# Altium footprint library medtronic_spinal_electrode_8pin.PcbLib: 1 footprints
Each footprint in its own frame and in the unit in brackets; x right, y up, seen from the top. Pads: shape width x height; smd on the part's side, far side on the other; paste and mask are expansions set on the pad; w line width, h text height; cw(c..) or ccw(c..) is an arc to the next point about the centre after c.
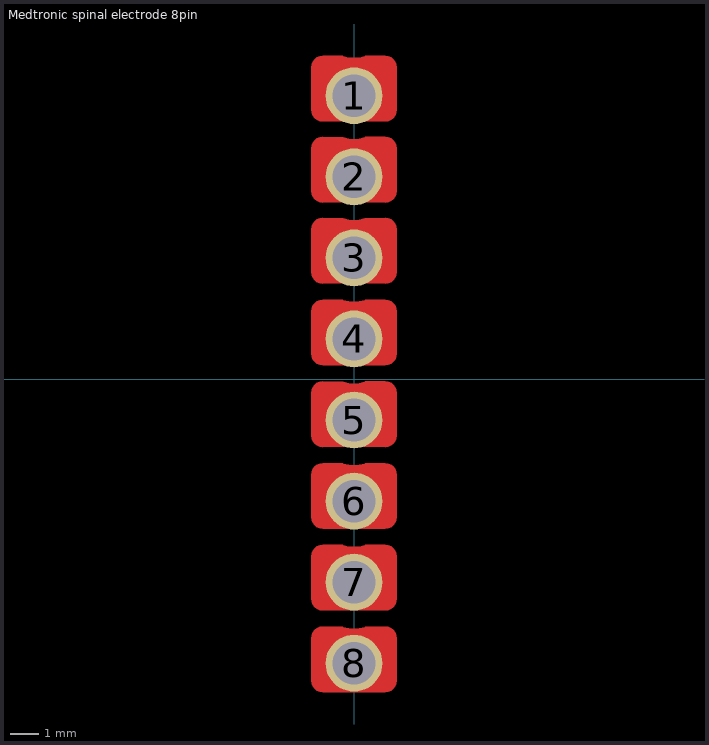
[diagram p0: the footprint, top view; thin cyan lines are the x and y axes]

## Medtronic spinal electrode 8pin [mm]
pads (8):
  round 2 / inner round 2.5 / far side round 2.55 hole 1.5: 1(0,9.975) 2(0,7.125) 3(0,4.275) 4(0,1.425) 5(0,-1.425) 6(0,-4.275) 7(0,-7.125) 8(0,-9.975)
Top Layer:
  region: -1.1,-8.12 -1.204,-8.106 -1.302,-8.066 -1.385,-8.002 -1.449,-7.918 -1.49,-7.821 -1.503,-7.717 -1.5,-7.717 -1.503,-6.217 -1.49,-6.112 -1.449,-6.015 -1.385,-5.931 -1.302,-5.867 -1.204,-5.827 -1.1,-5.813 -1.1,-5.817 -0.402,-5.818 -0.372,-5.83 -0.188,-5.874 0,-5.889 0.188,-5.874 0.372,-5.83 0.4,-5.819 0.4,-5.817 1.1,-5.813 1.204,-5.827 1.302,-5.867 1.385,-5.931 1.449,-6.015 1.49,-6.112 1.503,-6.217 1.5,-6.217 1.503,-7.717 1.49,-7.821 1.449,-7.918 1.385,-8.002 1.302,-8.066 1.204,-8.106 1.1,-8.12 1.1,-8.117 -1.1,-8.117
  region: -1.1,0.499 -1.204,0.513 -1.302,0.553 -1.385,0.617 -1.449,0.701 -1.49,0.798 -1.503,0.903 -1.5,0.903 -1.503,2.403 -1.49,2.507 -1.449,2.604 -1.385,2.688 -1.302,2.752 -1.204,2.792 -1.1,2.806 -1.1,2.803 -0.402,2.802 -0.372,2.789 -0.188,2.745 0,2.73 0.188,2.745 0.372,2.789 0.4,2.801 0.4,2.803 1.1,2.806 1.204,2.792 1.302,2.752 1.385,2.688 1.449,2.604 1.49,2.507 1.503,2.403 1.5,2.403 1.503,0.903 1.49,0.798 1.449,0.701 1.385,0.617 1.302,0.553 1.204,0.513 1.1,0.499 1.1,0.503 -1.1,0.503
  region: -1.1,6.222 -1.204,6.235 -1.302,6.276 -1.385,6.34 -1.449,6.423 -1.49,6.521 -1.503,6.625 -1.5,6.625 -1.503,8.125 -1.49,8.229 -1.449,8.327 -1.385,8.41 -1.302,8.474 -1.204,8.515 -1.1,8.528 -1.1,8.525 -0.402,8.524 -0.372,8.512 -0.188,8.468 0,8.453 0.188,8.468 0.372,8.512 0.4,8.523 0.4,8.525 1.1,8.528 1.204,8.515 1.302,8.474 1.385,8.41 1.449,8.327 1.49,8.229 1.503,8.125 1.5,8.125 1.503,6.625 1.49,6.521 1.449,6.423 1.385,6.34 1.302,6.276 1.204,6.235 1.1,6.222 1.1,6.225 -1.1,6.225
  region: -1.1,9.072 -1.204,9.085 -1.302,9.126 -1.385,9.19 -1.449,9.273 -1.49,9.371 -1.503,9.475 -1.5,9.475 -1.503,10.975 -1.49,11.079 -1.449,11.177 -1.385,11.26 -1.302,11.324 -1.204,11.365 -1.1,11.378 -1.1,11.375 -0.402,11.374 -0.372,11.362 -0.188,11.318 0,11.303 0.188,11.318 0.372,11.362 0.4,11.373 0.4,11.375 1.1,11.378 1.204,11.365 1.302,11.324 1.385,11.26 1.449,11.177 1.49,11.079 1.503,10.975 1.5,10.975 1.503,9.475 1.49,9.371 1.449,9.273 1.385,9.19 1.302,9.126 1.204,9.085 1.1,9.072 1.1,9.075 -1.1,9.075
  region: -1.1,3.372 -1.204,3.385 -1.302,3.426 -1.385,3.49 -1.449,3.573 -1.49,3.671 -1.503,3.775 -1.5,3.775 -1.503,5.275 -1.49,5.379 -1.449,5.477 -1.385,5.56 -1.302,5.624 -1.204,5.665 -1.1,5.678 -1.1,5.675 -0.402,5.674 -0.372,5.662 -0.188,5.618 0,5.603 0.188,5.618 0.372,5.662 0.4,5.673 0.4,5.675 1.1,5.678 1.204,5.665 1.302,5.624 1.385,5.56 1.449,5.477 1.49,5.379 1.503,5.275 1.5,5.275 1.503,3.775 1.49,3.671 1.449,3.573 1.385,3.49 1.302,3.426 1.204,3.385 1.1,3.372 1.1,3.375 -1.1,3.375
  region: -1.1,-5.247 -1.204,-5.233 -1.302,-5.193 -1.385,-5.129 -1.449,-5.045 -1.49,-4.948 -1.503,-4.844 -1.5,-4.844 -1.503,-3.344 -1.49,-3.239 -1.449,-3.142 -1.385,-3.058 -1.302,-2.994 -1.204,-2.954 -1.1,-2.94 -1.1,-2.944 -0.402,-2.945 -0.372,-2.957 -0.188,-3.001 0,-3.016 0.188,-3.001 0.372,-2.957 0.4,-2.946 0.4,-2.944 1.1,-2.94 1.204,-2.954 1.302,-2.994 1.385,-3.058 1.449,-3.142 1.49,-3.239 1.503,-3.344 1.5,-3.344 1.503,-4.844 1.49,-4.948 1.449,-5.045 1.385,-5.129 1.302,-5.193 1.204,-5.233 1.1,-5.247 1.1,-5.244 -1.1,-5.244
  region: -1.1,-2.374 -1.204,-2.36 -1.302,-2.32 -1.385,-2.256 -1.449,-2.172 -1.49,-2.075 -1.503,-1.971 -1.5,-1.971 -1.503,-0.471 -1.49,-0.366 -1.449,-0.269 -1.385,-0.185 -1.302,-0.121 -1.204,-0.081 -1.1,-0.067 -1.1,-0.071 -0.402,-0.072 -0.372,-0.084 -0.188,-0.128 0,-0.143 0.188,-0.128 0.372,-0.084 0.4,-0.073 0.4,-0.071 1.1,-0.067 1.204,-0.081 1.302,-0.121 1.385,-0.185 1.449,-0.269 1.49,-0.366 1.503,-0.471 1.5,-0.471 1.503,-1.971 1.49,-2.075 1.449,-2.172 1.385,-2.256 1.302,-2.32 1.204,-2.36 1.1,-2.374 1.1,-2.371 -1.1,-2.371
  region: -1.1,-10.993 -1.204,-10.979 -1.302,-10.939 -1.385,-10.875 -1.449,-10.791 -1.49,-10.694 -1.503,-10.59 -1.5,-10.59 -1.503,-9.09 -1.49,-8.985 -1.449,-8.888 -1.385,-8.804 -1.302,-8.74 -1.204,-8.7 -1.1,-8.686 -1.1,-8.69 -0.402,-8.691 -0.372,-8.703 -0.188,-8.747 0,-8.762 0.188,-8.747 0.372,-8.703 0.4,-8.692 0.4,-8.69 1.1,-8.686 1.204,-8.7 1.302,-8.74 1.385,-8.804 1.449,-8.888 1.49,-8.985 1.503,-9.09 1.5,-9.09 1.503,-10.59 1.49,-10.694 1.449,-10.791 1.385,-10.875 1.302,-10.939 1.204,-10.979 1.1,-10.993 1.1,-10.99 -1.1,-10.99
Top Overlay:
  text "." at -0.179,11.874 h3
Top Solder:
  drawing of 8 lines, arcs and shapes, not listed